# Altium schematic symbol library SnapEDAsch.SchLib: 1 symbol
Pins are listed as number, name and electrical type; pins without a type are passive.

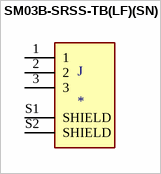
[diagram p0: symbol SM03B-SRSS-TB(LF)(SN)]

## SM03B-SRSS-TB(LF)(SN)
designator J
Connector Header Surface Mount, Right Angle 3 position 0.039 _1.00mm_; MP: SM03B-SRSS-TB_LF__SN_; MF: JST Sales; SnapEDA_Link: https://www.snapeda.com/parts/SM03B-SRSS-TB%28LF%29%28SN%29/JST%20Sales%20America%20Inc./view-part/3227115/?ref=snap; Availability: Unavailable; Price: None; Value: *; Package: None
footprint JST_SM03B-SRSS-TB(LF)(SN)
pins: 1, 2, 3, S1 SHIELD, S2 SHIELD